# Altium schematic symbol library LED_4PIN_GRN34_RED21.SchLib: 1 symbol
Pins are listed as number, name and electrical type; pins without a type are passive.

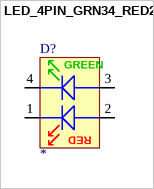
[diagram p0: symbol LED_4PIN_GRN34_RED21]

## LED_4PIN_GRN34_RED21
designator D?
pins: 1 RC, 2 RA, 3 GA, 4 GC
text: GREEN; RED